# Altium footprint library 2.54-1_6P.PcbLib: 1 footprints
Each footprint in its own frame and in the unit in brackets; x right, y up, seen from the top. Pads: shape width x height; smd on the part's side, far side on the other; paste and mask are expansions set on the pad; w line width, h text height; cw(c..) or ccw(c..) is an arc to the next point about the centre after c.
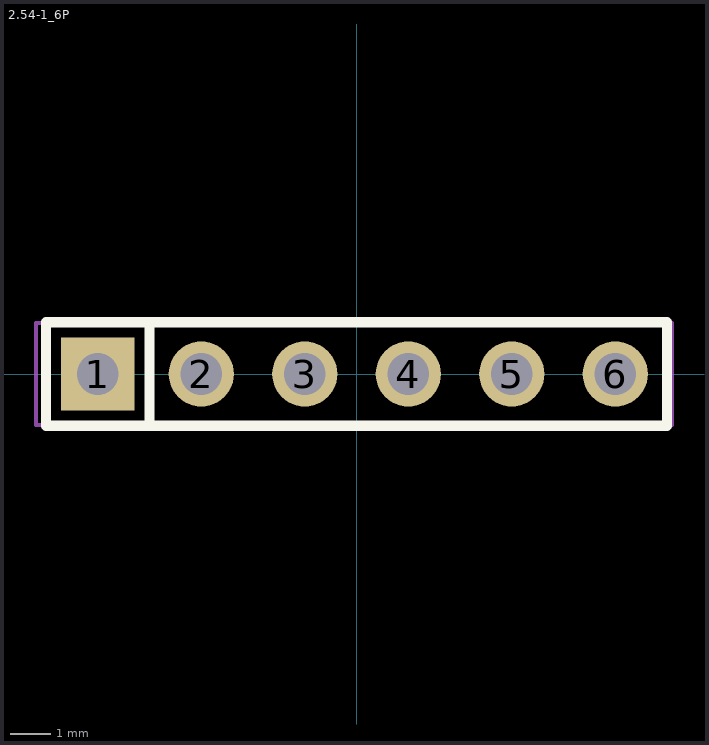
[diagram p0: the footprint, top view; thin cyan lines are the x and y axes]

## 2.54-1_6P [mm] "Pin Headers. -40C~+105C 1 1x6P 2.54mm 3.3mm 3A 6P Brass Square Hole Through Hole Top ,P=2.54mm Female Headers ROHS"
pads (6):
  rect 1.8x1.8 hole 1.02: 1(-6.35,0)
  round 1.6 hole 1.02: 2(-3.81,0) 3(-1.27,0) 4(1.27,0) 5(3.81,0) 6(6.35,0)
Top Overlay:
  lines w0.254: -5.08,-1.25 -5.08,1.25 ; -7.62,-1.27 -7.62,1.27 7.62,1.27 7.62,-1.27 -7.62,-1.27
Mechanical 13:
  lines w0.1: -7.87,-1.25 -7.87,1.25 7.747,1.25 7.747,-1.25 -7.87,-1.25
3D body "c162e59987044c559654f3f6cf872bf9.step": height 0, standoff 0, extent -7.87,-1.2 7.87,1.2